# Altium footprint library BTI6.PcbLib: 1 footprints
Each footprint in its own frame and in the unit in brackets; x right, y up, seen from the top. Pads: shape width x height; smd on the part's side, far side on the other; paste and mask are expansions set on the pad; w line width, h text height; cw(c..) or ccw(c..) is an arc to the next point about the centre after c.
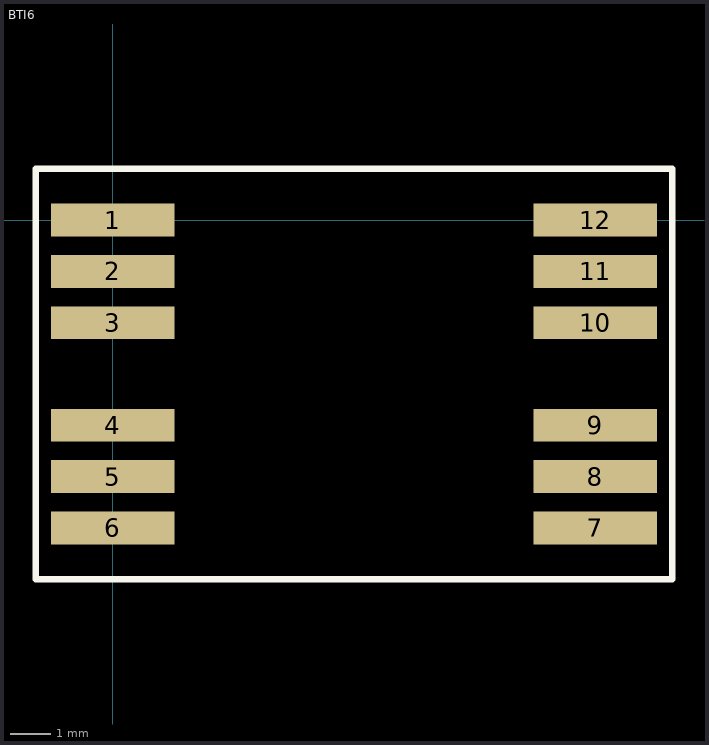
[diagram p0: the footprint, top view; thin cyan lines are the x and y axes]

## BTI6 [mil]
pads (12):
  rect 120x32 smd: 1(0,0) 2(0,-50) 3(0,-100) 4(0,-200) 5(0,-250) 6(0,-300) 7(470,-300) 8(470,-250) 9(470,-200) 10(470,-100) 11(470,-50) 12(470,0)
TopOverlay:
  lines w6: -75,-350 -75,50 545,50 545,-350 -75,-350